# EAGLE library part 691243200007 (library Eagle_WR-TBL Rising Cage Clamp (rev20a))
WR-TBL Serie 2432 - 7.00 mm Vertical Entry Modular w. Rising Cage Clamp KIND PROPERTIES Pitch 7 mm MATERIAL PROPERTIES Insulator Material PA66 Insulator Flammability Rating UL94 V-0 Contact Material Copper Alloy Contact Plating Tin over Nickel Terminal Screw Material Steel Terminal Screw Plating Zinc Wire Guard Material Copper Alloy GENERAL INFORMATION Operating Temperature -30 up to +120 °C Compliance RoHS ELECTRICAL PROPERTIES IR UL 10 A IR VDE 10 A Working Voltage [UL] 300 V (AC) Working Voltage [VDE] 450 V (AC) Withstanding Voltage [UL] 1600 V (AC) Withstanding Voltage [VDE] 2500 V (AC) Contact Resistance [UL] 20 mΩ Contact Resistance [VDE] 20 mΩ MECHANICAL PROPERTIES Wire Strip Length 6 Screw M2 CERTIFICATION UL Approval E150931 VDE Approval 40015434 PACKAGING PROPERTIES Packaging Box <https://www.we-online.com/catalog/media/o60865v209%20Family_TBL_7_00_2432_VERTICAL_CABLE_ENTRY_W_RISING_CLAMP_6912432000xx.jpg> Details see: https://www.we-online.com/catalog/en/TBL_7_00_2432_VERTICAL_CABLE_ENTRY_W_RISING_CLAMP_6912432000xx/ Updated by Ella Wu 2019-11-26 2019(C) Wurth Elektronik
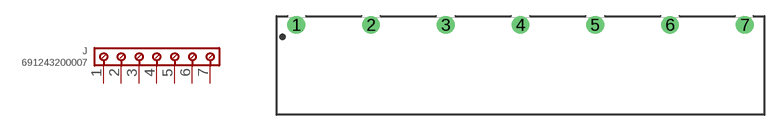
[diagram p97: symbol with the pads of 691243200007; footprint 691243200007]

Designator prefix J

## 691243200007 (IR-UL: 10A; IR-VDE: 10A; PART-NUMBER: 691243200007; PINS: 7; PITCH: 7mm; TYPE: Vertical; WIRE: 16 to 30 (AWG) 1.31 to 0.0509 (mm²); WORKING-VOLTAGE-UL: 300V (AC); WORKING-VOLTAGE-VDE: 450V (AC))  [691243200007]
1  1  pas
2  2  pas
3  3  pas
4  4  pas
5  5  pas
6  6  pas
7  7  pas

## Footprint 691243200007 (pad centres in mm)
WR-TBL Serie 2432 - 7.00 mm Vertical Entry Modular w. Rising Cage Clamp Max Height =7.3mm , Pitch 7mm , 7 Pins
drill 1.1: 1 -21,0; 2 -14,0; 3 -7,0; 4 0,0; 5 7,0; 6 14,0; 7 21,0